# EAGLE library part MPU-9250 (library ENGI 301 - Project 2a)
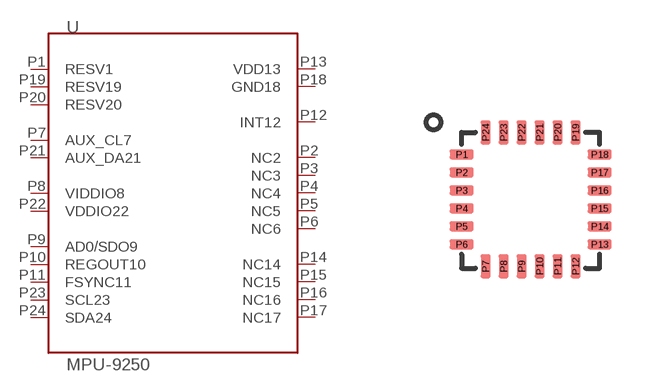
[diagram p0: symbol with the pads of MPU-9250; footprint MPU-9250]

Designator prefix U

## MPU-9250  [MPU-9250]
P1  RESV1
P2  NC2
P3  NC3
P4  NC4
P5  NC5
P6  NC6
P7  AUX_CL7
P8  VIDDIO8
P9  AD0/SDO9
P10  REGOUT10
P11  FSYNC11
P12  INT12
P13  VDD13
P14  NC14
P15  NC15
P16  NC16
P17  NC17
P18  GND18
P19  RESV19
P20  RESV20
P21  AUX_DA21
P22  VDDIO22
P23  SCL23
P24  SDA24

## Footprint MPU-9250 (pad centres in mm)
smd 0.6 x 0.25: P1 0,0; P2 0,-0.45; P3 0,-0.9; P4 0,-1.35; P5 0,-1.8; P6 0,-2.25; P13 3.45,-2.25; P14 3.45,-1.8; P15 3.45,-1.35; P16 3.45,-0.9; P17 3.45,-0.45; P18 3.45,0
smd 0.25 x 0.6: P7 0.6,-2.8; P8 1.05,-2.8; P9 1.5,-2.8; P10 1.95,-2.8; P11 2.4,-2.8; P12 2.85,-2.8; P19 2.85,0.55; P20 2.4,0.55; P21 1.95,0.55; P22 1.5,0.55; P23 1.05,0.55; P24 0.6,0.55